# Altium schematic symbol library common_schlib.SchLib: 60 symbols
Pins are listed as number, name and electrical type; pins without a type are passive.

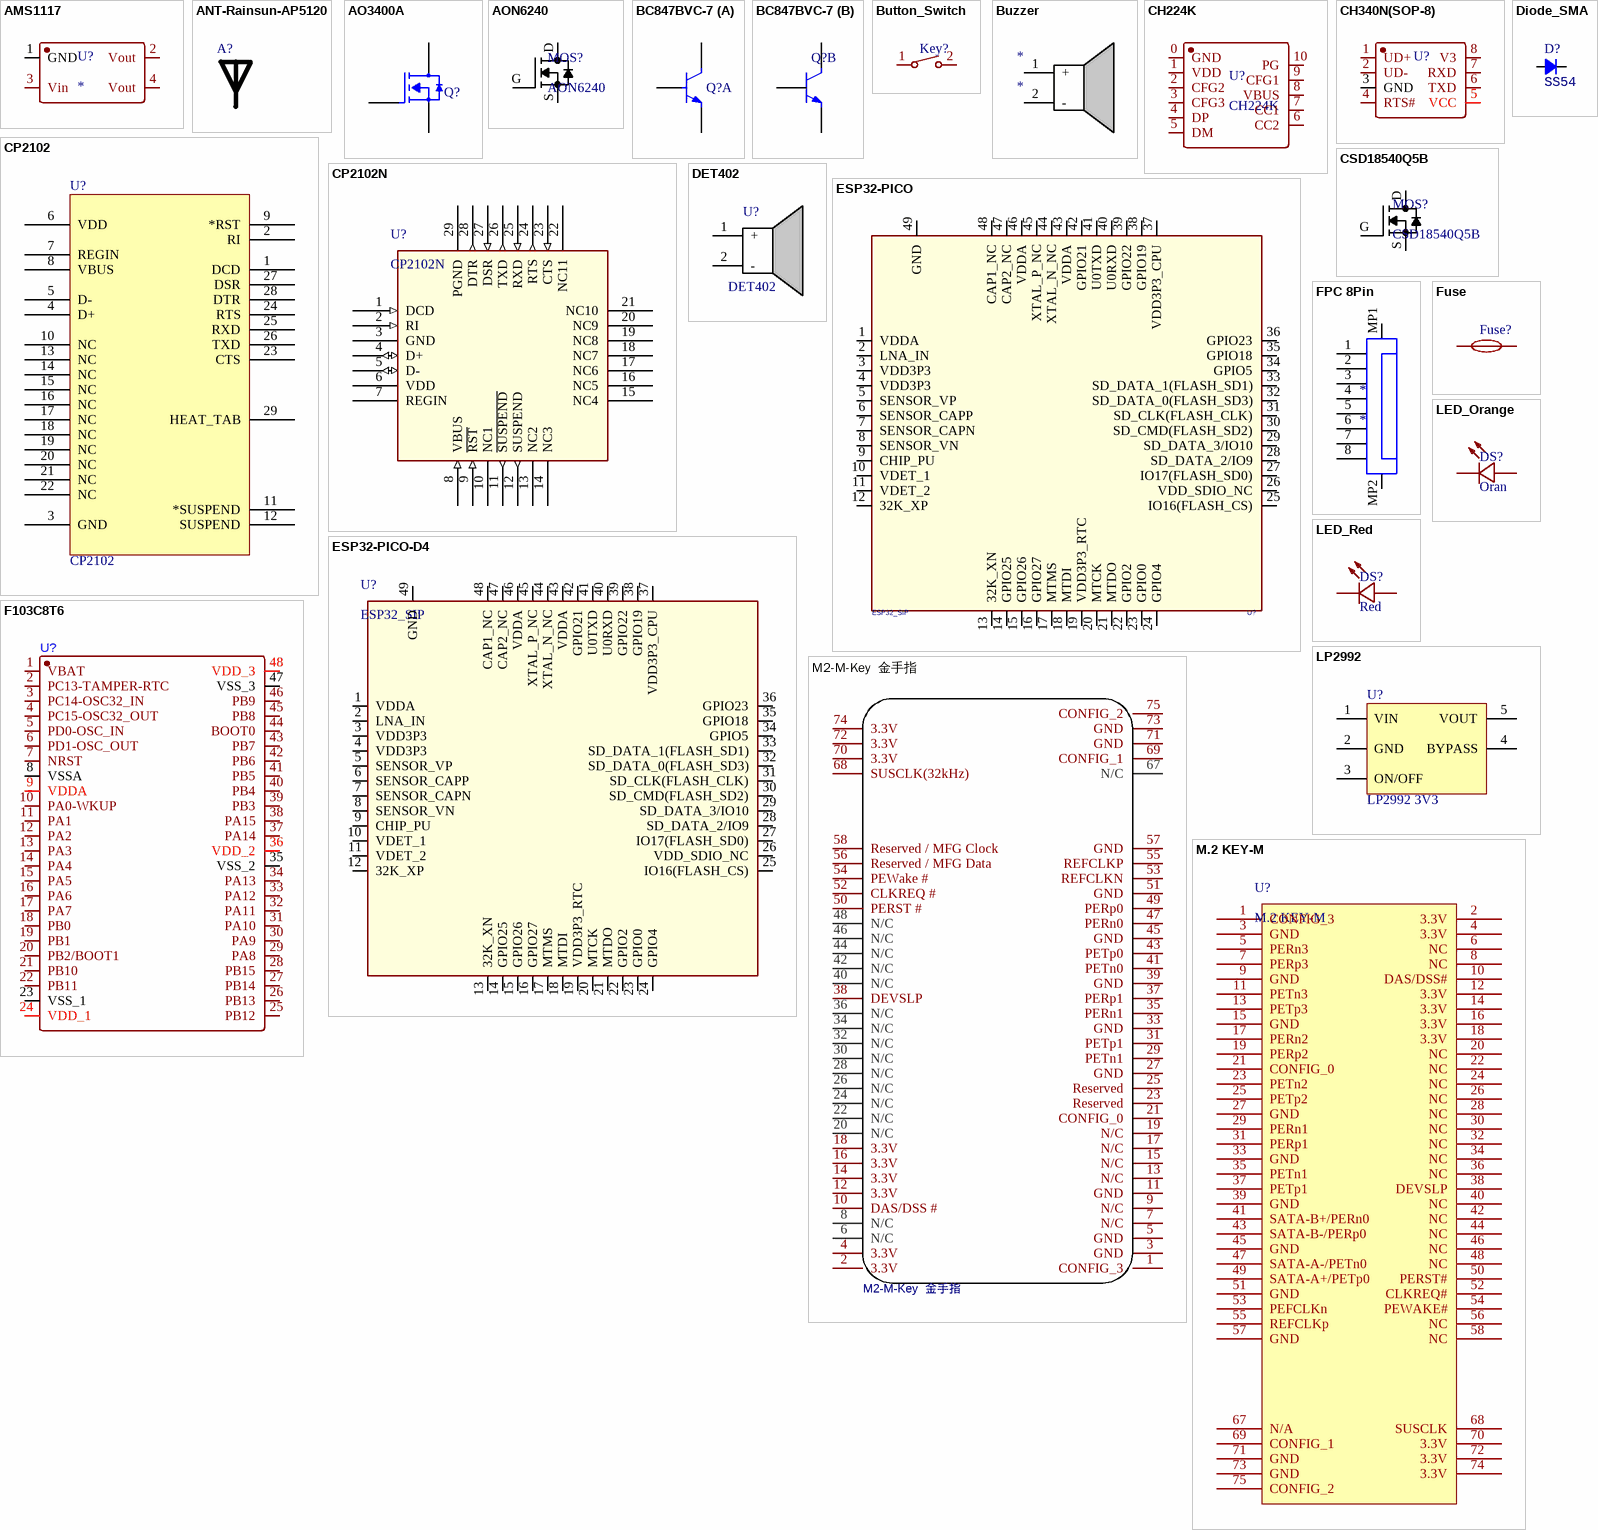
[diagram p0: symbols AMS1117 to M.2 KEY-M]

## AMS1117
designator U?
footprint SOT-223 (AMS1117)
pins: 1 GND, 2 Vout, 3 Vin, 4 Vout

## ANT-Rainsun-AP5120
designator A?, comment RAINSUN  (value not drawn)
footprint ANT-Rainsun-AN5120 (选择焊盘)
pins: 1

## AO3400A
designator Q?  (value not drawn)
N-MOS
footprint SOT23-3 (SOT23, 3-Leads, Body 3.1x3.0mm (max), Pitch 0.95mm, IPC Medium Density)
pins: 1 G, 2 S, 3 D

## AON6240
designator MOS?
MOSFET N-CH 40V 85A
footprint DFN5*6
pins: D, G, S

## BC847BVC-7
designator Q?  (value not drawn)
footprint SOT563-6
part A pins: 1 E1, 2 B1, 6 C1
part B pins: 3 C2, 4 E2, 5 B2

## Button_Switch
designator Key?
footprint button Switch
pins: 1, 2

## Buzzer
designator *
footprint Buzzer 5020 (buzzer)
pins: 1 +, 2 -

## CH224K
designator U?
footprint ESSOP10 (CH224k)
pins: 0 GND, 1 VDD, 2 CFG2, 3 CFG3, 4 DP, 5 DM, 6 CC2, 7 CC1, 8 VBUS, 9 CFG1, 10 PG

## CH340N(SOP-8)
designator U?, comment CH340N  (value not drawn)
footprint SOP-8
pins: 1 UD+, 2 UD-, 3 GND, 4 RTS#, 5 VCC, 6 TXD, 7 RXD, 8 V3

## CP2102
designator U?
USB转TTL; PART DESC: SINGLE-CHIP USB TO UART BRIDGE, QFN28, RoHS.; MFG #1: SILICON LABS; PART NUMBER: CP2102; Value: Value; RefDes: RefDes; Type: DEV
footprint QFN-28
pins: 1 DCD, 2 RI, 3 GND, 4 D+, 5 D-, 6 VDD, 7 REGIN, 8 VBUS, 9 *RST, 10 NC, 11 *SUSPEND, 12 SUSPEND, 13 NC, 14 NC, 15 NC, 16 NC, 17 NC, 18 NC, 19 NC, 20 NC, 21 NC, 22 NC, 23 CTS, 24 RTS, 25 RXD, 26 TXD, 27 DSR, 28 DTR, 29 HEAT_TAB

## CP2102N
designator U?
USB转串口
footprint CP2102N (QFN28 5*5)
pins: 1 DCD (in), 2 RI (in), 3 GND (power), 4 D+ (io), 5 D- (io), 6 VDD (power), 7 REGIN (power), 8 VBUS (in), 9 ~{RST} (in), 10 NC1, 11 ~{SUSPEND} (out), 12 SUSPEND (out), 13 NC2, 14 NC3, 15 NC4, 16 NC5, 17 NC6, 18 NC7, 19 NC8, 20 NC9, 21 NC10, 22 NC11, 23 CTS (in), 24 RTS (out), 25 RXD (in), 26 TXD (out), 27 DSR (in), 28 DTR (out), 29 PGND (power)

## CSD18540Q5B
designator MOS?
MOSFET N-CH 60V 100A TI
footprint DFN5*6
pins: D, G, S

## DET402
designator U?
footprint DET402
pins: 1 +, 2 -

## Diode_SMA
designator D?, comment SS54
Diode; Type: SMA; Value: SS54
footprint DO-214AC (SMA)
pins: 1 A, 2 K

## ESP32-PICO
designator U?, comment ESP32_SIP
footprint QFN-48_7X7
pins: 1 VDDA (power), 2 LNA_IN, 3 VDD3P3 (power), 4 VDD3P3 (power), 5 SENSOR_VP, 6 SENSOR_CAPP, 7 SENSOR_CAPN, 8 SENSOR_VN, 9 CHIP_PU, 10 VDET_1, 11 VDET_2, 12 32K_XP, 13 32K_XN, 14 GPIO25, 15 GPIO26, 16 GPIO27, 17 MTMS, 18 MTDI, 19 VDD3P3_RTC (power), 20 MTCK, 21 MTDO, 22 GPIO2, 23 GPIO0, 24 GPIO4, 25 IO16(FLASH_CS), 26 VDD_SDIO_NC, 27 IO17(FLASH_SD0), 28 SD_DATA_2/IO9, 29 SD_DATA_3/IO10, 30 SD_CMD(FLASH_SD2), 31 SD_CLK(FLASH_CLK), 32 SD_DATA_0(FLASH_SD3), 33 SD_DATA_1(FLASH_SD1), 34 GPIO5, 35 GPIO18, 36 GPIO23, 37 VDD3P3_CPU (power), 38 GPIO19, 39 GPIO22, 40 U0RXD (power), 41 U0TXD (power), 42 GPIO21, 43 VDDA (power), 44 XTAL_N_NC, 45 XTAL_P_NC, 46 VDDA (power), 47 CAP2_NC, 48 CAP1_NC, 49 GND (power)

## ESP32-PICO-D4
designator U?, comment ESP32_SIP
footprint QFN-48 7*7 (ESP32-PICO-D4)
pins: 1 VDDA (power), 2 LNA_IN, 3 VDD3P3 (power), 4 VDD3P3 (power), 5 SENSOR_VP, 6 SENSOR_CAPP, 7 SENSOR_CAPN, 8 SENSOR_VN, 9 CHIP_PU, 10 VDET_1, 11 VDET_2, 12 32K_XP, 13 32K_XN, 14 GPIO25, 15 GPIO26, 16 GPIO27, 17 MTMS, 18 MTDI, 19 VDD3P3_RTC (power), 20 MTCK, 21 MTDO, 22 GPIO2, 23 GPIO0, 24 GPIO4, 25 IO16(FLASH_CS), 26 VDD_SDIO_NC, 27 IO17(FLASH_SD0), 28 SD_DATA_2/IO9, 29 SD_DATA_3/IO10, 30 SD_CMD(FLASH_SD2), 31 SD_CLK(FLASH_CLK), 32 SD_DATA_0(FLASH_SD3), 33 SD_DATA_1(FLASH_SD1), 34 GPIO5, 35 GPIO18, 36 GPIO23, 37 VDD3P3_CPU (power), 38 GPIO19, 39 GPIO22, 40 U0RXD (power), 41 U0TXD (power), 42 GPIO21, 43 VDDA (power), 44 XTAL_N_NC, 45 XTAL_P_NC, 46 VDDA (power), 47 CAP2_NC, 48 CAP1_NC, 49 GND (power)

## F103C8T6
designator U?
footprint LQFP-48
pins: 1 VBAT, 2 PC13-TAMPER-RTC, 3 PC14-OSC32_IN, 4 PC15-OSC32_OUT, 5 PD0-OSC_IN, 6 PD1-OSC_OUT, 7 NRST, 8 VSSA, 9 VDDA, 10 PA0-WKUP, 11 PA1, 12 PA2, 13 PA3, 14 PA4, 15 PA5, 16 PA6, 17 PA7, 18 PB0, 19 PB1, 20 PB2/BOOT1, 21 PB10, 22 PB11, 23 VSS_1, 24 VDD_1, 25 PB12, 26 PB13, 27 PB14, 28 PB15, 29 PA8, 30 PA9, 31 PA10, 32 PA11, 33 PA12, 34 PA13, 35 VSS_2, 36 VDD_2, 37 PA14, 38 PA15, 39 PB3, 40 PB4, 41 PB5, 42 PB6, 43 PB7, 44 BOOT0, 45 PB8, 46 PB9, 47 VSS_3, 48 VDD_3

## FPC 8Pin
designator *
footprint FPC 0.5MM 8P 1.0H (FPC 连接器)
pins: 1, 2, 3, 4, 5, 6, 7, 8, MP1, MP2

## Fuse
designator Fuse?
footprint Fuse
pins: 1, 2

## LED_Orange
designator DS?, comment Oran
footprint LED_0402
pins: 1 C, 2 A

## LED_Red
designator DS?, comment Red
footprint LED_0402
pins: 1 C, 2 A

## LP2992
designator U?, comment LP2992 3V3
LDO
footprint SOT23-5 (SOT23, 3-Leads, Body 3.1x3.0mm (max), Pitch 0.95mm, IPC Medium Density)
pins: 1 VIN, 2 GND, 3 ON/OFF, 4 BYPASS, 5 VOUT

## M2-M-Key  金手指
designator U?
Contributor: zengjf; spicePre: U; spiceSymbolName: M2-M-Key
footprint M.2
pins: 1 CONFIG_3, 2 3.3V, 3 GND, 4 3.3V, 5 GND, 6 N/C, 7 N/C, 8 N/C, 9 N/C, 10 DAS/DSS #, 11 GND, 12 3.3V, 13 N/C, 14 3.3V, 15 N/C, 16 3.3V, 17 N/C, 18 3.3V, 19 N/C, 20 N/C, 21 CONFIG_0, 22 N/C, 23 Reserved, 24 N/C, 25 Reserved, 26 N/C, 27 GND, 28 N/C, 29 PETn1, 30 N/C, 31 PETp1, 32 N/C, 33 GND, 34 N/C, 35 PERn1, 36 N/C, 37 PERp1, 38 DEVSLP, 39 GND, 40 N/C, 41 PETn0, 42 N/C, 43 PETp0, 44 N/C, 45 GND, 46 N/C, 47 PERn0, 48 N/C, 49 PERp0, 50 PERST #, 51 GND, 52 CLKREQ #, 53 REFCLKN, 54 PEWake #, 55 REFCLKP, 56 Reserved / MFG Data, 57 GND, 58 Reserved / MFG Clock, 67 N/C, 68 SUSCLK(32kHz), 69 CONFIG_1, 70 3.3V, 71 GND, 72 3.3V, 73 GND, 74 3.3V, 75 CONFIG_2

## M.2 KEY-M
designator U?
NGFF M.2 KEY-M
footprint M.2
pins: 1 CONFIG_3, 2 3.3V, 3 GND, 4 3.3V, 5 PERn3, 6 NC, 7 PERp3, 8 NC, 9 GND, 10 DAS/DSS#, 11 PETn3, 12 3.3V, 13 PETp3, 14 3.3V, 15 GND, 16 3.3V, 17 PERn2, 18 3.3V, 19 PERp2, 20 NC, 21 CONFIG_0, 22 NC, 23 PETn2, 24 NC, 25 PETp2, 26 NC, 27 GND, 28 NC, 29 PERn1, 30 NC, 31 PERp1, 32 NC, 33 GND, 34 NC, 35 PETn1, 36 NC, 37 PETp1, 38 DEVSLP, 39 GND, 40 NC, 41 SATA-B+/PERn0, 42 NC, 43 SATA-B-/PERp0, 44 NC, 45 GND, 46 NC, 47 SATA-A-/PETn0, 48 NC, 49 SATA-A+/PETp0, 50 PERST#, 51 GND, 52 CLKREQ#, 53 PEFCLKn, 54 PEWAKE#, 55 REFCLKp, 56 NC, 57 GND, 58 NC, 67 N/A, 68 SUSCLK, 69 CONFIG_1, 70 3.3V, 71 GND, 72 3.3V, 73 GND, 74 3.3V, 75 CONFIG_2

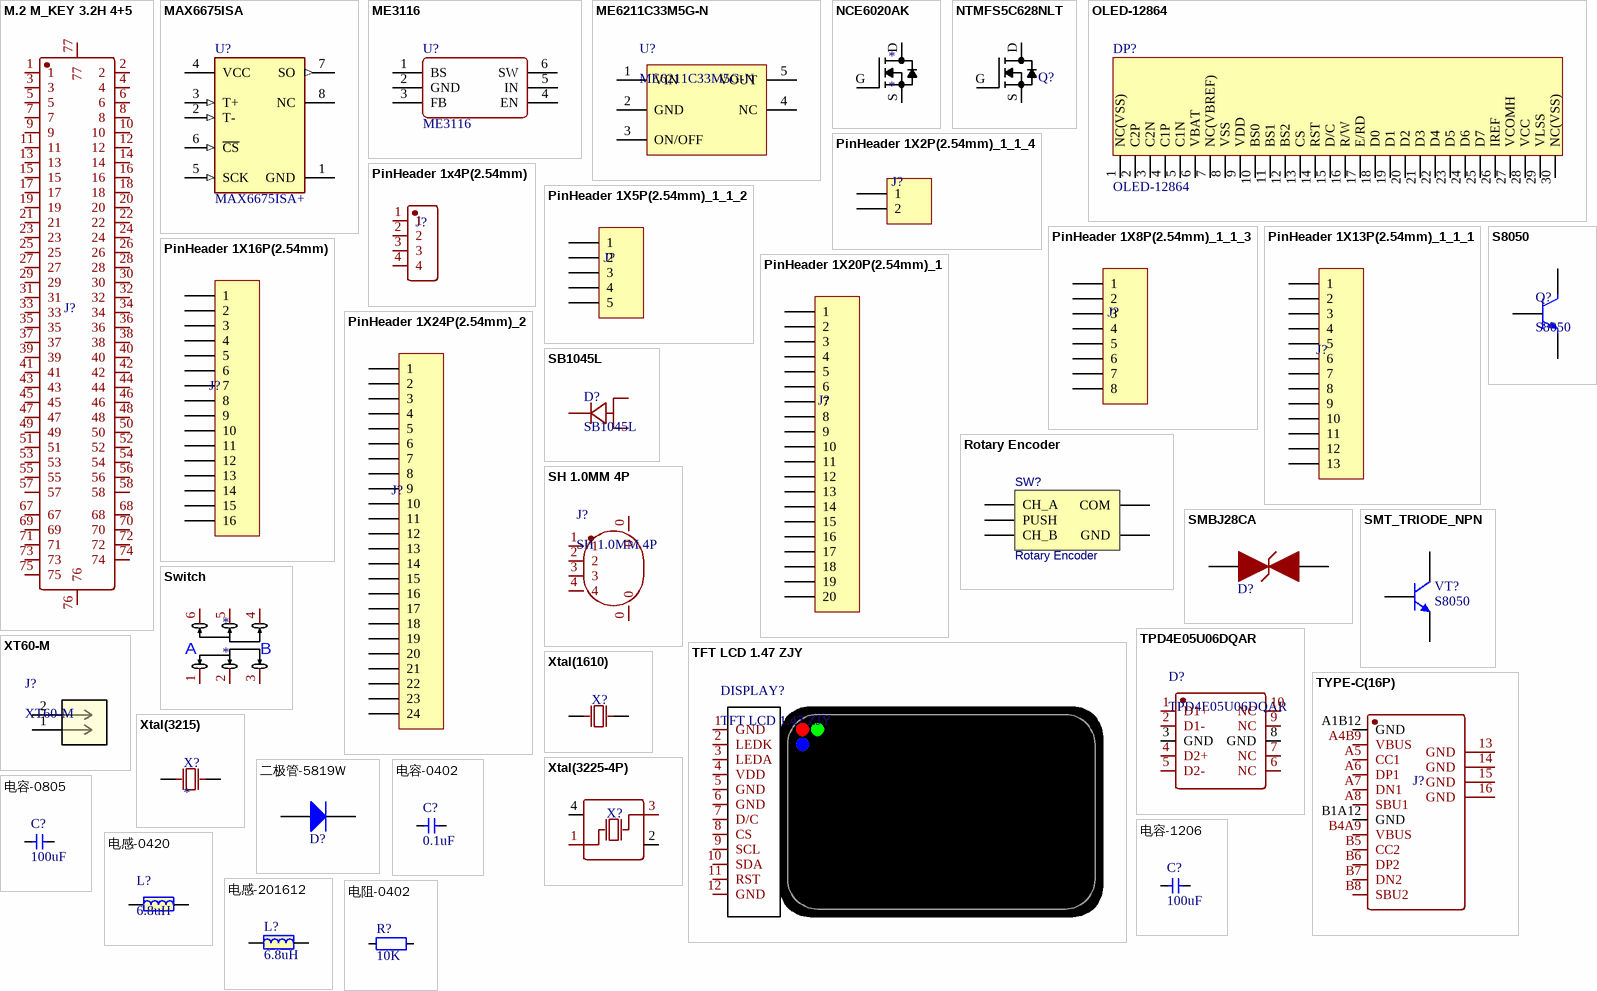
[diagram p1: symbols M.2 M_KEY 3.2H 4+5 to 电阻-0402]

## M.2 M_KEY 3.2H 4+5
designator J?
M-KEY 底座
footprint M.2 M-Key 3.2H 4+5
pins: 1, 2, 3, 4, 5, 6, 7, 8, 9, 10, 11, 12, 13, 14, 15, 16, 17, 18, 19, 20, 21, 22, 23, 24, 25, 26, 27, 28, 29, 30, 31, 32, 33, 34, 35, 36, 37, 38, 39, 40, 41, 42, 43, 44, 45, 46, 47, 48, 49, 50, 51, 52, 53, 54, 55, 56, 57, 58, 67, 68, 69, 70, 71, 72, 73, 74, 75, 76, 77

## MAX6675ISA
designator U?  Part Number: MAX6675ISA+  (hidden comment: MAX6675ISA)
IC THERMOCOUP TO DGTL 8-SOIC; Manufacturer: Maxim Electronics; Category 9E07530Daf1645C0: Semiconductors and Actives; Category 3Cb8F1B20D37E77F: Sensors (Acceleration, Pressure, ...); Category 8A76477Cb9Bd51B1: Temperature Control and Regulation; Category 84F649Fcb0Ed5F31: Uncategorized; max_supply_voltage_dc: 5.50V; Category D46C1966E09E0Fab: Temperature; Category Db391633E8F300Fe: Industrial Control; Category C33B0E31F09B18Fc: Temperature Sensor ICs; Mfg Package Ident: 21-0041; Category E95E2454Daf93299: Temperature Sensing/Measurement; Category 2Fc5E2Cf1B85F402: Interface ICs; Category 6B95A69F5F75B052: Sensors and Accessories; Symbol 0 0: Standard; Num Pins: 8; supply_current: 0.70 mA; helpURL: https://upverter.com/upn/revision/df8f98e99e77f28c/; ComponentLink2Description: Datasheet; Temperature: -20°C to +85°C; Package: 21-0041; Supplier 2: Mouser; Supplier 1: Digi-Key; ComponentLink1URL: https://upverter.com/upn/revision/df8f98e99e77f28c/; Supplier Part Number 2: 700-MAX6675ISA; Supplier Part Number 1: MAX6675ISA+-ND; ComponentLink1Description: Upverter; ComponentLink2URL: https://upverter.com/datasheet/328f41e80cd5fba93d602566d8324382201f26da.pdf; RoHS: TRUE; Temperature Range High: +85°C; Octopart Part Number: 33bcfab92ad8ec7b; Digikey Description: IC THERMOCOUP TO DGTL 8-SOIC; Digikey Part Number: MAX6675ISA+-ND; Lead Free: yes; Type: integrated circuit; Category 20B3Edb914A9Fb74: Uncategorized; Mouser Part Number: 700-MAX6675ISA; Temperature Range Low: -20°C; Category 3B3Df6370Ab4E0Fa: Temperature Sensor ICs; Mounting Type: surface mount; Ipc Land Pattern Name: SOIC127P600X155-8
footprint SO-8
pins: 1 GND (power), 2 T- (in), 3 T+ (in), 4 VCC (power), 5 SCK (in), 6 ~{CS} (in), 7 SO (out), 8 NC

## ME3116
designator U?
DC-DC
footprint SOT23-6
pins: 1 BS, 2 GND, 3 FB, 4 EN, 5 IN, 6 SW

## ME6211C33M5G-N
designator U?
3.3V 500mA LDO
footprint SOT23-5
pins: 1 VIN, 2 GND, 3 ON/OFF, 4 NC, 5 VOUT

## NCE6020AK
designator *
MOSFET 60V 20A N-CH TO-252-2; ComponentLink1Description: New link; ComponentLink1URL: *
footprint TO-252-2
pins: D, G, S

## NTMFS5C628NLT
designator Q?  (value not drawn)
MOSFET N-CH 60V SO8FL; Manufacturer: ON Semiconductor; Manufacturer Part Number: NTMFS5C628NLT1G; FET Type: N-Channel; Drive Voltage (Max Rds On,  Min Rds On): 4.5V, 10V; Vgs(th) (Max) @ Id: 2V @ 135µA; Gate Charge (Qg) (Max) @ Vgs: 52nC @ 10V; Input Capacitance (Ciss) (Max) @ Vds: 3600pF @ 25V; Vgs (Max): ±20V; Power Dissipation (Max): 3.7W (Ta), 110W (Tc); Rds On (Max) @ Id, Vgs: 2.4 mOhm @ 50A, 10V; Supplier 1: Digi-Key; Supplier Part Number 1: NTMFS5C628NLT1GOSCT-ND; RoHS: RoHS Compliant; Category: Discrete Semiconductor Products; Stock: 1490; Pricing 1: 1=1.8, 10=1.627, 100=1.3078, 500=1.01716 (USD); Packaging: Cut Tape (CT); Part Status: Active; Technology: MOSFET (Metal Oxide); Current - Continuous Drain (Id) @ 25°C: -; FET Feature: -; Operating Temperature: -55°C ~ 175°C (TJ); Mounting Type: Surface Mount; Supplier Device Package: 5-DFN (5x6) (8-SOFL); Package / Case: 8-PowerTDFN; ComponentLink1URL: http://www.onsemi.com/pub/Collateral/NTMFS5C628NL-D.PDF; ComponentLink1Description: http://www.onsemi.com/pub/Collateral/NTMFS5C628NL-D.PDF; Supplier 2: Digi-Key; Supplier Part Number 2: NTMFS5C628NLT1GOSTR-ND; Pricing 2: 1500=0.81823 (USD)
footprint SO8FL (DFN5 5x6, 1.27P  (SO-8FL)  CASE 488AA)
pins: D, G, S

## OLED-12864
designator DP?
显示屏; ComponentLink1Description: New link; ComponentLink1URL: *
footprint OLED-12864-1.3-TOP
pins: 1 NC(VSS), 2 C2P, 3 C2N, 4 C1P, 5 C1N, 6 VBAT, 7 NC(VBREF), 8 VSS, 9 VDD, 10 BS0, 11 BS1, 12 BS2, 13 CS, 14 RST, 15 D/C, 16 R/W, 17 E/RD, 18 D0, 19 D1, 20 D2, 21 D3, 22 D4, 23 D5, 24 D6, 25 D7, 26 IREF, 27 VCOMH, 28 VCC, 29 VLSS, 30 NC(VSS)

## PinHeader 1X2P(2.54mm)_1_1_4
designator J?
排针1*2
footprint 1X2P(2.54mm)
pins: 1, 2

## PinHeader 1x4P(2.54mm)
designator J?
排针1*4
footprint 1X4P(2.54mm)
pins: 1, 2, 3, 4

## PinHeader 1X5P(2.54mm)_1_1_2
designator J?
排针1*5
footprint 1X5P(2.54mm)
pins: 1, 2, 3, 4, 5

## PinHeader 1X8P(2.54mm)_1_1_3
designator J?
排针1*8
footprint 1X8P(2.54mm)
pins: 1, 2, 3, 4, 5, 6, 7, 8

## PinHeader 1X13P(2.54mm)_1_1_1
designator J?
排针1*13
footprint 1X13P(2.54mm)
pins: 1, 2, 3, 4, 5, 6, 7, 8, 9, 10, 11, 12, 13

## PinHeader 1X16P(2.54mm)
designator J?
排针1*16
footprint 1X16P(2.54mm)
pins: 1, 2, 3, 4, 5, 6, 7, 8, 9, 10, 11, 12, 13, 14, 15, 16

## PinHeader 1X20P(2.54mm)_1
designator J?
排针1*20
footprint 1X20P(2.54mm)
pins: 1, 2, 3, 4, 5, 6, 7, 8, 9, 10, 11, 12, 13, 14, 15, 16, 17, 18, 19, 20

## PinHeader 1X24P(2.54mm)_2
designator J?
排针1*24
footprint 1X24P(2.54mm)
pins: 1, 2, 3, 4, 5, 6, 7, 8, 9, 10, 11, 12, 13, 14, 15, 16, 17, 18, 19, 20, 21, 22, 23, 24

## Rotary Encoder
designator SW?
BOM_Manufacturer: ALPSALPINE; BOM_Manufacturer Part: EC11E1534443; Contributor: LCSC; BOM_Supplier: LCSC; BOM_Supplier Part: C1322543; BOM_JLCPCB Part Class: Extended Part; spicePre: S; spiceSymbolName: EC11E1534443
footprint SIQ-02FVS3
pins: 1 CH_A, 2 PUSH, 3 COM, 4 CH_B, 5 GND

## S8050
designator Q?
NPN
footprint SOT23-3
pins: 1 B, 2 E, 3 C

## SB1045L
designator D?
肖特基二极管 40V 10A
footprint TO-277 (贴片二极管)
pins: 1 K, 2 K, 3 A

## SH 1.0MM 4P
designator J?
1.0MM间距 4P立贴插座
footprint SH 1.0MM 4P (4P立贴)
pins: 0, 0, 1, 2, 3, 4

## SMBJ28CA
designator D?  (value not drawn)
footprint SMBJ-CA_MFG
pins: 1, 2

## SMT_TRIODE_NPN
designator VT?, comment S8050
Surface mount NPN transistor, package SOT-23
footprint SMT_TRIODE_NPN (Surface mount NPN transistor, package SOT-23)
pins: 1 B, 2 E, 3 C

## Switch
designator *
footprint Switch(SMD-6)
pins: 1, 2, 3, 4, 5, 6
text: A; B

## TFT LCD 1.47 ZJY
designator DISPLAY?
中景园1.47屏幕
footprint ZJY 1.47‘’ TFT LCD (中景园1.47寸屏幕)
pins: 1 GND, 2 LEDK, 3 LEDA, 4 VDD, 5 GND, 6 GND, 7 D/C, 8 CS, 9 SCL, 10 SDA, 11 RST, 12 GND

## TPD4E05U06DQAR
designator D?
ESD 二极管保护阵列
footprint USON-10 (ESD二极管保护阵列用)
pins: 1 D1+, 2 D1-, 3 GND, 4 D2+, 5 D2-, 6 NC, 7 NC, 8 GND, 9 NC, 10 NC

## TYPE-C(16P)
designator J?
footprint TYPE-C 16P
pins: 13 GND, 14 GND, 15 GND, 16 GND, A1B12 GND, A4B9 VBUS, A5 CC1, A6 DP1, A7 DN1, A8 SBU1, B1A12 GND, B4A9 VBUS, B5 CC2, B6 DP2, B7 DN2, B8 SBU2

## XT60-M
designator J?
XT60电源公头
pins: 1, 2

## Xtal(1610)
designator X?
footprint XTAL(SMD1610)
pins: 1 OSC1, 2 OSC2

## Xtal(3215)
designator X?
footprint Xtal(SMD3215-2P)
pins: 1 OSC1, 2 OSC2

## Xtal(3225-4P)
designator X?
footprint XTAL(SMD3225-4P)
footprint XTAL(SMD3225-4P)
pins: 1 OSC1, 2 GND, 3 OSC2, 4 GND

## 二极管-5819W
designator D?  (value not drawn)
40V
footprint SOD-323
pins: 1 A, 2 K

## 电容-0402
designator C?, comment 0.1uF
Capacitor; Value: 0.1u
footprint CAP_0402
pins: 1, 2

## 电容-0805
designator C?, comment 100uF
Capacitor; Value: 0.1u
footprint CAP_0805
pins: 1, 2

## 电容-1206
designator C?, comment 100uF
Capacitor; Value: 0.1u
footprint CAP-1206
pins: 1, 2

## 电感-0420
designator L?, comment 6.8uH
footprint IND-0420 (0420功率电感)
pins: 1, 2

## 电感-201612
designator L?, comment 6.8uH
footprint IND-201612
pins: 1, 2

## 电阻-0402
designator R?, comment 10K
Resistor; Value: 22R
footprint RES_0402
pins: 1, 2